# Altium schematic symbol library ERF8-020-09.0-L-DV-K-TR.SchLib: 1 symbol
Pins are listed as number, name and electrical type; pins without a type are passive.

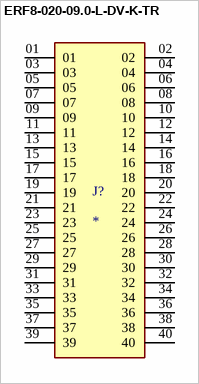
[diagram p0: symbol ERF8-020-09.0-L-DV-K-TR]

## ERF8-020-09.0-L-DV-K-TR
designator J?
MP: ERF8-020-09.0-L-DV-K-TR; Price: None; Value: *; Availability: Unavailable; Package: None
footprint SAMTEC_ERF8-020-09.0-L-DV-K-TR
pins: 01, 02, 03, 04, 05, 06, 07, 08, 09, 10, 11, 12, 13, 14, 15, 16, 17, 18, 19, 20, 21, 22, 23, 24, 25, 26, 27, 28, 29, 30, 31, 32, 33, 34, 35, 36, 37, 38, 39, 40